# Altium schematic symbol library FIoT_BG96.SCHLIB: 21 symbols
Pins are listed as number, name and electrical type; pins without a type are passive.

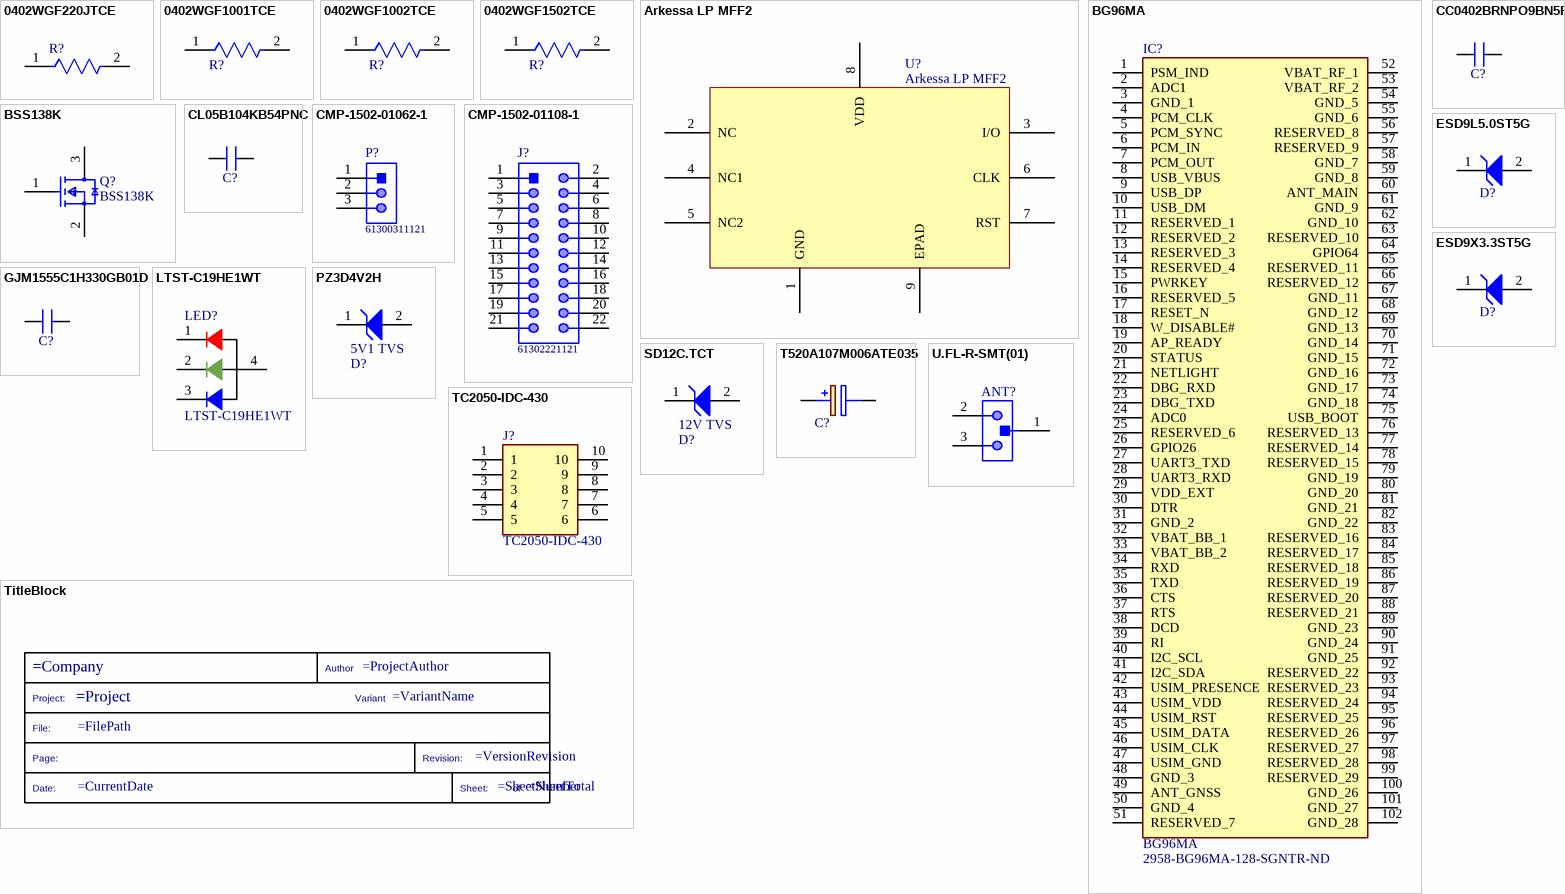
[diagram p0: symbols 0402WGF220JTCE to U.FL-R-SMT(01)]

## 0402WGF220JTCE
designator R?  (value not drawn)
Res Thick Film 0402 22R Ohm 1% 0.063W; Manufacturer 1: Royal Electronic Factory; Lumen Part Number: LPN0004; Manufacturer Part Number 1: 0402WGF220JTCE; Supplier 1: Mouser; Supplier Part Number 1: 303-0402WGF220JTCE
pins: 1, 2

## 0402WGF1001TCE
designator R?  (value not drawn)
Res Thick Film 0402 1K Ohm 1% 0.063W; Manufacturer 1: Royal Electronic Factory; Lumen Part Number: LPN0001; Manufacturer Part Number 1: 0402WGF1001TCE; Supplier 1: Mouser; Supplier Part Number 1: 303-0402WGF1001TCE
pins: 1, 2

## 0402WGF1002TCE
designator R?  (value not drawn)
Res Thick Film 0402 10K Ohm 1% 0.063W; Manufacturer 1: Royal Electronic Factory; Lumen Part Number: LPN0003; Manufacturer Part Number 1: 0402WGF1002TCE; Supplier 1: Mouser; Supplier Part Number 1: 303-0402WGF1002TCE
pins: 1, 2

## 0402WGF1502TCE
designator R?  (value not drawn)
Res Thick Film 0402 15K Ohm 1% 0.063W; Manufacturer 1: MultiComp; Manufacturer Part Number 1: MC0402WGF1502TCE-TC; Lumen Part Number: LPN0002; Supplier 1: Farnell; Supplier Part Number 1: 1127145
pins: 1, 2

## Arkessa LP MFF2
designator U?
ESIM; Lumen Part Number: LPN0005
pins: 1 GND, 2 NC, 3 I/O, 4 NC1, 5 NC2, 6 CLK, 7 RST, 8 VDD, 9 EPAD

## BG96MA
designator IC?  Supplier Part Number 1: 2958-BG96MA-128-SGNTR-ND
Cellular EDGE, GPRS, GSM, HSPA, LTE, UMTS Transceiver Module 850MHz, 900MHz, 1.8GHz, 1.9GHz Antenna Not Included Surface Mount; Lumen Part Number: LPN0006; Supplier 1: Digi-Key
pins: 1 PSM_IND, 2 ADC1, 3 GND_1, 4 PCM_CLK, 5 PCM_SYNC, 6 PCM_IN, 7 PCM_OUT, 8 USB_VBUS, 9 USB_DP, 10 USB_DM, 11 RESERVED_1, 12 RESERVED_2, 13 RESERVED_3, 14 RESERVED_4, 15 PWRKEY, 16 RESERVED_5, 17 RESET_N, 18 W_DISABLE#, 19 AP_READY, 20 STATUS, 21 NETLIGHT, 22 DBG_RXD, 23 DBG_TXD, 24 ADC0, 25 RESERVED_6, 26 GPIO26, 27 UART3_TXD, 28 UART3_RXD, 29 VDD_EXT, 30 DTR, 31 GND_2, 32 VBAT_BB_1, 33 VBAT_BB_2, 34 RXD, 35 TXD, 36 CTS, 37 RTS, 38 DCD, 39 RI, 40 I2C_SCL, 41 I2C_SDA, 42 USIM_PRESENCE, 43 USIM_VDD, 44 USIM_RST, 45 USIM_DATA, 46 USIM_CLK, 47 USIM_GND, 48 GND_3, 49 ANT_GNSS, 50 GND_4, 51 RESERVED_7, 52 VBAT_RF_1, 53 VBAT_RF_2, 54 GND_5, 55 GND_6, 56 RESERVED_8, 57 RESERVED_9, 58 GND_7, 59 GND_8, 60 ANT_MAIN, 61 GND_9, 62 GND_10, 63 RESERVED_10, 64 GPIO64, 65 RESERVED_11, 66 RESERVED_12, 67 GND_11, 68 GND_12, 69 GND_13, 70 GND_14, 71 GND_15, 72 GND_16, 73 GND_17, 74 GND_18, 75 USB_BOOT, 76 RESERVED_13, 77 RESERVED_14, 78 RESERVED_15, 79 GND_19, 80 GND_20, 81 GND_21, 82 GND_22, 83 RESERVED_16, 84 RESERVED_17, 85 RESERVED_18, 86 RESERVED_19, 87 RESERVED_20, 88 RESERVED_21, 89 GND_23, 90 GND_24, 91 GND_25, 92 RESERVED_22, 93 RESERVED_23, 94 RESERVED_24, 95 RESERVED_25, 96 RESERVED_26, 97 RESERVED_27, 98 RESERVED_28, 99 RESERVED_29, 100 GND_26, 101 GND_27, 102 GND_28

## BSS138K
designator Q?
MOSFET N-CH 50V 220MA SOT-23; Manufacturer 1: ON Semiconductor / Fairchild; Manufacturer Part Number 1: BSS138; Lumen Part Number: LPN0007; Supplier 1: Digi-Key; Supplier Part Number 1: BSS138K-13DICT-ND
pins: 1 G, 2 S, 3 D

## CC0402BRNPO9BN5R6
designator C?, comment GRM1555C1H6R0CA01D  (value not drawn)
5.6pF 50V NP0 ±0.1pF 0402 MLCC; Manufacturer 1: TDK; Manufacturer Part Number 1: C1005C0G1H060C; Lumen Part Number: LPN0008; Supplier 1: Digi-Key; Supplier Part Number 1: 490-8222-1-ND
pins: 1, 2
1 alternate drawing of the same symbol

## CL05B104KB54PNC
designator C?  (value not drawn)
100nF 50V X7R ±10% 0402 MLCC; Manufacturer 1: TDK; Manufacturer Part Number 1: C1005C0G1H060C; Lumen Part Number: LPN0009; Supplier 1: Digi-Key; Supplier Part Number 1: 1276-CL05B104KB54PNCCT-ND
pins: 1, 2
1 alternate drawing of the same symbol

## CMP-1502-01062-1
designator P?, comment 61300311121
THT Vertical Pin Header WR-PHD, Pitch 2.54 mm, Single Row, 3 pins; Manufacturer 1: Wurth Elektronik; Lumen Part Number: LPN00010; Manufacturer Part Number 1: 61300311121
pins: 1, 2, 3

## CMP-1502-01108-1
designator J?, comment 61302221121
THT Vertical Pin Header WR-PHD, Pitch 2.54 mm, Dual Row, 22 pins; Manufacturer 1: Wurth Elektronik; Lumen Part Number: LPN00011; Manufacturer Part Number 1: 61302221121
pins: 1, 2, 3, 4, 5, 6, 7, 8, 9, 10, 11, 12, 13, 14, 15, 16, 17, 18, 19, 20, 21, 22

## ESD9L5.0ST5G
designator D?  (value not drawn)
Transient Voltage Suppressor, ESD Protection Diode with Ultra-Low Capacitance, 2-Pin SOD-923, Pb-Free, Tape and Reel; Manufacturer 1: ON Semiconductor; Lumen Part Number: LPN00012; Manufacturer Part Number 1: ESD9L5.0ST5G; Supplier 1: Digi-Key; Supplier Part Number 1: ESD9L5.0ST5GOSCT-ND
pins: 1 K, 2 A

## ESD9X3.3ST5G
designator D?  (value not drawn)
Transient Voltage Suppressor, Micro-Packaged Diode for ESD Protection, 2-Pin SOD-923, Pb-Free, Tape and Reel; Manufacturer 1: On Semiconductor; Lumen Part Number: LPN00013; Manufacturer Part Number 1: ESD9X3.3ST5G; Supplier 1: Farnell; Supplier Part Number 1: 2627963
pins: 1 K, 2 A

## GJM1555C1H330GB01D
designator C?  (value not drawn)
33pF 50V C0G ±2% 0402 MLCC; Manufacturer 1: TDK; Manufacturer Part Number 1: C1005C0G1H060C; Lumen Part Number: LPN00014; Supplier 1: Farnell; Supplier Part Number 1: 3784396
pins: 1, 2
1 alternate drawing of the same symbol

## LTST-C19HE1WT
designator LED?
Red, Green, Blue _RGB_ 624nm Red, 525nm Green, 470nm Blue LED Indication - Discrete 2.1V Red, 3.35V Green, 3.35V Blue 0606 _1616 Metric_; Lumen Part Number: LPN00015; Supplier 1: Digi-Key; Supplier Part Number 1: 160-2162-1-ND
pins: 1, 2, 3, 4

## PZ3D4V2H
designator D?  (value not drawn)
5uA@4.2V 55Ω Single 500mW 5.1V SOD-323 Zener Diodes ROHS; Lumen Part Number: LPN00016
pins: 1 K, 2 A
text: 5V1 TVS

## SD12C.TCT
designator D?  (value not drawn)
TVS DIODE 12VWM 24VC SOD323; Lumen Part Number: LPN00017; Supplier 1: Digi-Key; Supplier Part Number 1: SD12C.TCTCT-ND
pins: 1 K, 2 A
text: 12V TVS

## T520A107M006ATE035
designator C?  (value not drawn)
Tantalum Capacitors - Polymer 6.3 VDC 100uF 1206 20% ESR=35mOhms; Lumen Part Number: LPN00018; Supplier 1: Farnell; Supplier Part Number 1: 2855176
pins: 1 +, 2 -

## TC2050-IDC-430
designator J?  (no BOM)
Connector; Lumen Part Number: LPN00019
pins: 1, 2, 3, 4, 5, 6, 7, 8, 9, 10

## TitleBlock
designator *?  (value not drawn)  (graphical)
Lumen Part Number: LPN00020
text: Author; Project:; Variant; File:; Page:; Revision:; Date:; Sheet:; of

## U.FL-R-SMT(01)
designator ANT?  (value not drawn)
CONN RECPT ULTRA-MINI COAX SMD; Manufacturer 1: Hirose Electric; Lumen Part Number: LPN00021; Manufacturer Part Number 1: U.FL-R-SMT(01); Supplier 1: Farnell; Supplier Part Number 1: 3908021
pins: 1, 2, 3